# EAGLE library part SPRINGCON_AST125_4X2 (library xMZ-Mod-Touch-Bodenplatine)
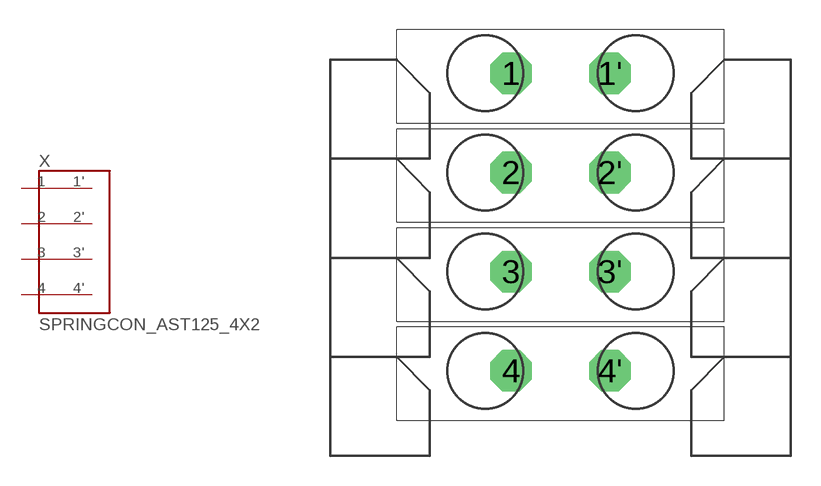
[diagram p1: symbol with the pads of SPRINGCON_AST125_4X2; footprint SPRINGCON_AST125_4X2]

Designator prefix X

## SPRINGCON_AST125_4X2  [SPRINGCON_AST125_4X2]
1  1  pas
1'  1  pas
2  2  pas
2'  2  pas
3  3  pas
3'  3  pas
4  4  pas
4'  4  pas

## Footprint SPRINGCON_AST125_4X2 (pad centres in mm)
drill 1.4 octagon: 1 -2.5,7.5; 1' 2.5,7.5; 2 -2.5,2.5; 2' 2.5,2.5; 3 -2.5,-2.5; 3' 2.5,-2.5; 4 -2.5,-7.5; 4' 2.5,-7.5